# Altium footprint library Connectors - CoaxialRF.PcbLib: 1 footprints
Each footprint in its own frame and in the unit in brackets; x right, y up, seen from the top. Pads: shape width x height; smd on the part's side, far side on the other; paste and mask are expansions set on the pad; w line width, h text height; cw(c..) or ccw(c..) is an arc to the next point about the centre after c.
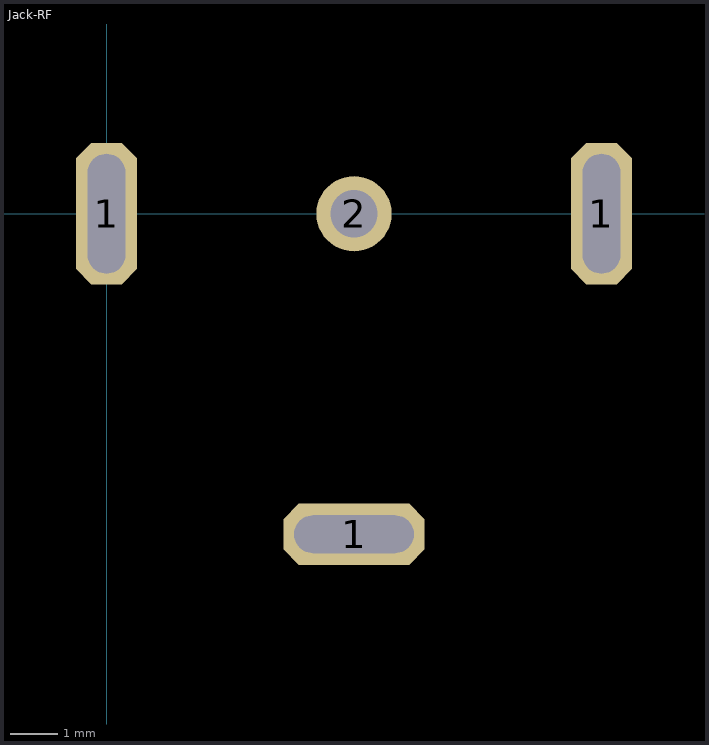
[diagram p0: the footprint, top view; thin cyan lines are the x and y axes]

## Jack-RF [mm]
pads (4):
  oct 1.3x3 hole 2.54 slot 0.8 at 0 deg: 1(0,0) 1(10.5,0)
  oct 3x1.3 hole 2.54 slot 0.8 at 90 deg: 1(5.25,-6.8)
  round 1.6 hole 1 mask+0.1: 2(5.25,0)
3D body "abc.step": height 13.01, standoff -4.1, extent -0.3,-22.25 10.75,0.85